# Altium footprint library SIM808 dev Board V1.0.2.PcbLib: 18 footprints (part 2 of 2)
Each footprint in its own frame and in the unit in brackets; x right, y up, seen from the top. Pads: shape width x height; smd on the part's side, far side on the other; paste and mask are expansions set on the pad; w line width, h text height; cw(c..) or ccw(c..) is an arc to the next point about the centre after c.
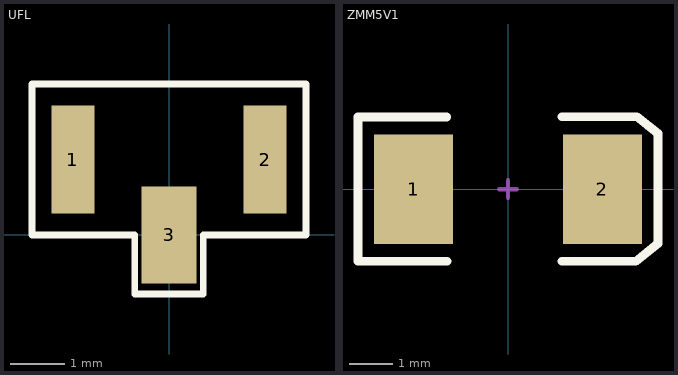
[diagram p1: the footprints below, top view; thin cyan lines are the x and y axes]

## UFL [mm]
pads (3):
  rect 0.8x2 smd: 1(-1.778,1.397) 2(1.778,1.397)
  rect 1.016x1.8 smd: 3(0,0)
Top Overlay:
  lines w0.127: -2.54,0 -2.54,2.794 -0.61,2.794 0.66,2.794 2.54,2.794 2.54,0 0.635,0 0.635,-1.092 -0.635,-1.092 -0.635,0 -2.54,0
3D body "SW3dPS-UFL-R-SMD.STEP": height 1.25, standoff 0, extent -1.7,-0.153 1.7,2.947

## ZMM5V1 [mm] "SHOTTKY DIODE"
height 1.85
pads (2):
  rect 1.8x2.5 smd: 1(-2.159,0) 2(2.159,0)
Top Overlay:
  lines w0.2: -1.402,1.651 -3.429,1.651 -3.429,-1.651 -1.397,-1.651 ; 1.229,-1.651 2.921,-1.651 3.429,-1.245 3.429,1.27 2.944,1.658 1.229,1.658
Mechanical 1:
  lines w0.1: -0.2,0 0.2,0 ; 0,-0.2 0,0.2
3D body "User Library-SMAJ.step": height 2, standoff 0.01, extent -2.465,-1.27 2.465,1.27